# EAGLE library part 53261-0871 (library SamacSys_Parts)
Molex PICOBLADE Series, Series Number 53261, 1.25mm Pitch, 8 Way 1 Row Shrouded Right Angle PCB Header, Surface Mount Source: Datasheet <http://www.molex.com/webdocs/datasheets/pdf/en-us/0532610871_PCB_HEADERS.pdf>
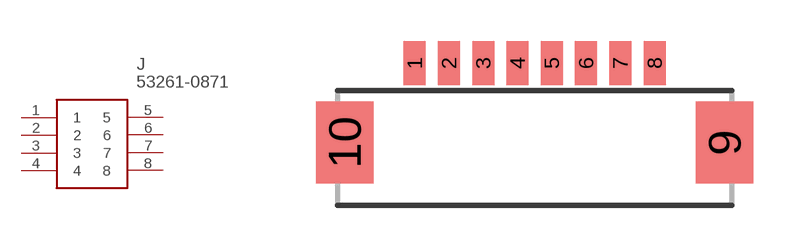
[diagram p1: symbol with the pads of 53261-0871; footprint 53261-0871]

Designator prefix J

## 53261-0871 (Description: Molex PICOBLADE Series, Series Number 53261, 1.25mm Pitch, 8 Way 1 Row Shrouded Right Angle PCB Header, Surface Mount; Height: mm; Manufacturer_Name: Molex; Manufacturer_Part_Number: 53261-0871; Mouser_Part_Number: 538-53261-0871; Mouser_Price-Stock: https://www.mouser.co.uk/ProductDetail/Molex/53261-0871?qs=%252B72YyncTwW%252BggfdCJ7Netw%3D%3D)  [53261-0871]
1  1
2  2
3  3
4  4
5  5
6  6
7  7
8  8

## Footprint 53261-0871 (pad centres in mm)
53261-0871
smd 0.8 x 1.6: 1 -4.375,1.004; 2 -3.125,1.004; 3 -1.875,1.004; 4 -0.625,1.004; 5 0.625,1.004; 6 1.875,1.004; 7 3.125,1.004; 8 4.375,1.004
smd 2.1 x 3: 9 6.925,-1.896; 10 -6.925,-1.896